# Altium footprint library SEC_3002_DZ&HL.PcbLib: 65 footprints (part 5 of 5)
Each footprint in its own frame and in the unit in brackets; x right, y up, seen from the top. Pads: shape width x height; smd on the part's side, far side on the other; paste and mask are expansions set on the pad; w line width, h text height; cw(c..) or ccw(c..) is an arc to the next point about the centre after c.
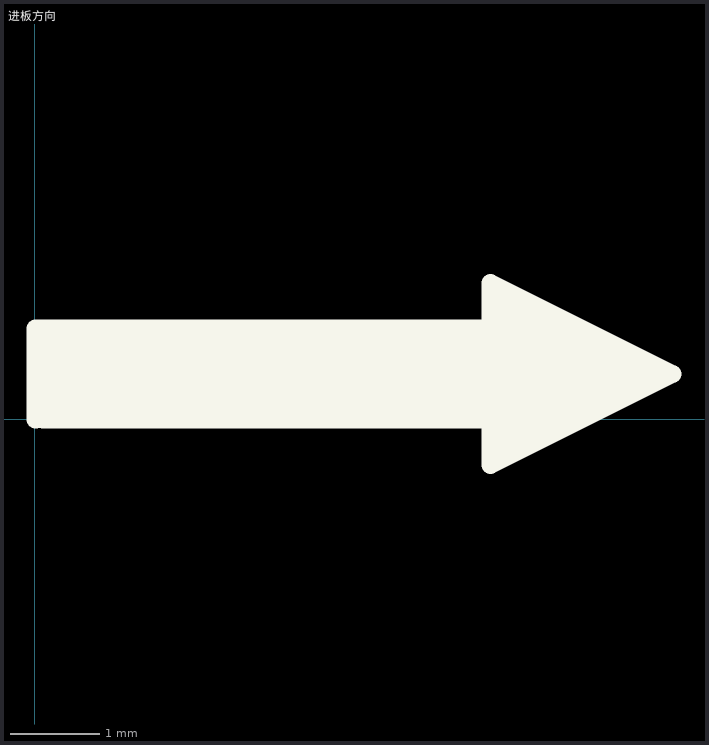
[diagram p4: the footprint, top view; thin cyan lines are the x and y axes]

## 进板方向 [mil]
height 53.15
Top Overlay:
  rectangle: 200.46,0 240.46,40
  rectangle: 200.46,-10 220.46,50
  rectangle: 230.46,10 260.46,30
  rectangle: 0.46,0 200.46,40
  lines w8: 0.41,0 0.41,40 200.41,40 ; 3.56,0 200.41,0 ; 200.41,0 200.41,-20 280.41,20 200.41,60 200.41,40 ; 200.41,0 240.41,20 200.41,40
  lines w13.78: 210.41,-10 270.41,20 210.41,50